# EAGLE library part PH8 (library PH8)
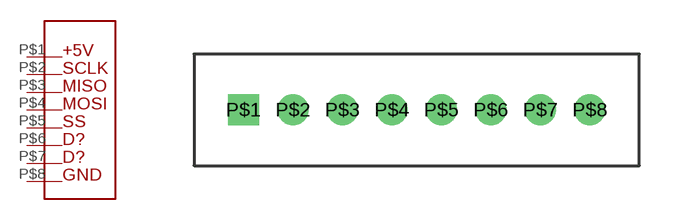
[diagram p0: symbol with the pads of PH; footprint PH]

Designator prefix -

## PH8  [PH]
P$1  P$1
P$2  P$2
P$3  P$3
P$4  P$4
P$5  P$5
P$6  P$6
P$7  P$7
P$8  P$8

## Footprint PH (pad centres in mm)
drill 0.75 square: P$1 -8,0
drill 0.75: P$2 -6,0; P$3 -4,0; P$4 -2,0; P$5 0,0; P$6 2,0; P$7 4,0; P$8 6,0